# EAGLE library part SPARKFUN-IC-COMMS_RS485 (library Thermocouple-board)
RS-485 Transceiver SP3485 Series 8 Pin NSOIC 3.3 V Low Power Half Duplex RS-485 Transceiver MAX3485 compatible Datasheet <http://www.sparkfun.com/datasheets/Components/General/sp3485CN-LTR.pdf> SparkFun Products SparkFun Transceiver Breakout - RS-485 <https://www.sparkfun.com/products/10124> (BOB-10124) SparkFun USB to RS-485 Converter <https://www.sparkfun.com/products/9822> (BOB-09822)
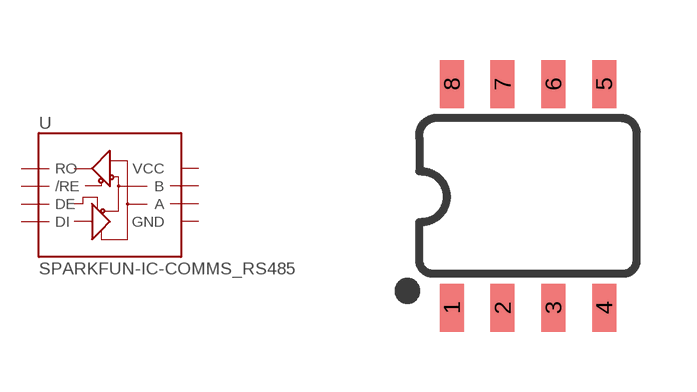
[diagram p1: symbol with the pads of SPARKFUN-IC-COMMS_SO08; footprint SPARKFUN-IC-COMMS_SO08]

Designator prefix U

## SPARKFUN-IC-COMMS_RS485SOIC (PROD_ID: IC-09388; VALUE: MAX3485CSA)  [SPARKFUN-IC-COMMS_SO08]
1  RO
2  /RE
3  DE
4  DI
5  GND
6  A
7  B
8  VCC

## Footprint SPARKFUN-IC-COMMS_SO08 (pad centres in mm)
SOIC -8 Specifications: Pin count: 8 Width: 0.15" Example device(s): MCP2551
smd 0.6 x 1.2: 1 -1.905,-2.8; 2 -0.635,-2.8; 3 0.635,-2.8; 4 1.905,-2.8; 5 1.905,2.8; 6 0.635,2.8; 7 -0.635,2.8; 8 -1.905,2.8